# Altium footprint library C12_05.PcbLib: 1 footprints
Each footprint in its own frame and in the unit in brackets; x right, y up, seen from the top. Pads: shape width x height; smd on the part's side, far side on the other; paste and mask are expansions set on the pad; w line width, h text height; cw(c..) or ccw(c..) is an arc to the next point about the centre after c.
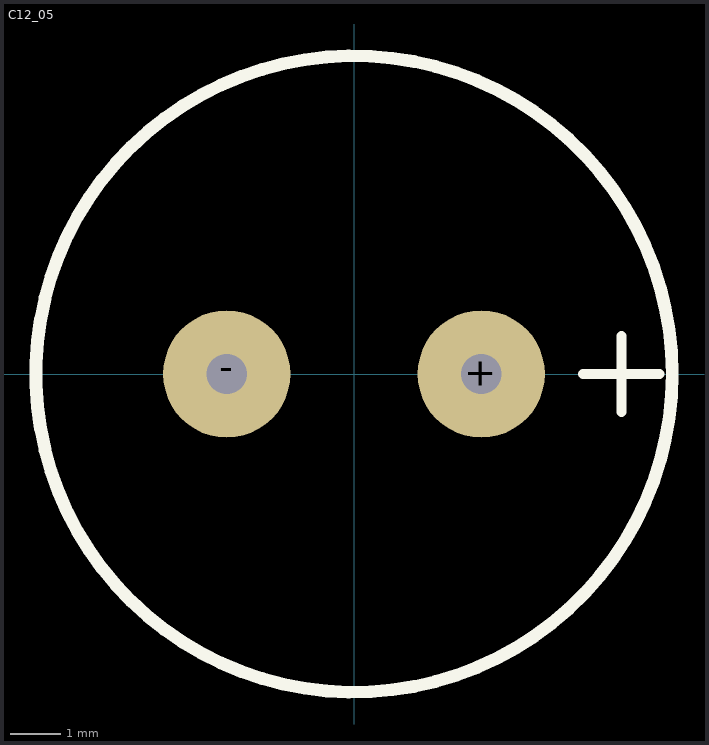
[diagram p0: the footprint, top view; thin cyan lines are the x and y axes]

## C12_05 [mm]
height 21.5
pads (2):
  round 2.54 hole 0.8: +(2.54,0) -(-2.54,0)
Top Overlay:
  circle w0.254: c0,0 r6.35
  lines w0.2: 4.572,0 6.096,0 ; 5.334,-0.762 5.334,0.762
3D body: height 20.09, standoff -18.9, extent -6.25,-6.25 6.25,6.25